# Altium schematic symbol library cui-microphones.SchLib: 1 symbol
Pins are listed as number, name and electrical type; pins without a type are passive.

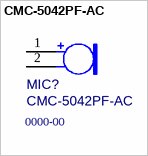
[diagram p0: symbol CMC-5042PF-AC]

## CMC-5042PF-AC
designator MIC?, comment 0000-00  value CMC-5042PF-AC
Electret Condenser Microphone; MF: CUI INC; PN: 0000-00; Package: PTH; ExtraInfo: *
signal-integrity model Connector
footprint CMC-5042PF-AC (Electret Condenser Microphone)
pins: 1 + (power), 2 - (power)